# EAGLE library part STM32F038E6Y7 (library circuit_tree)
IC
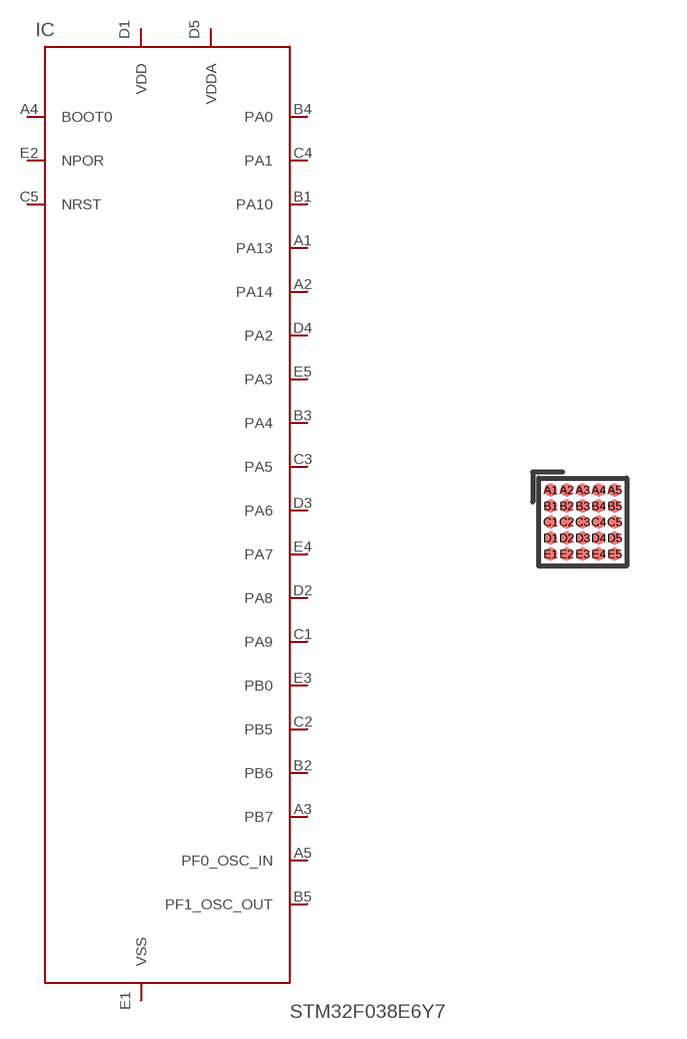
[diagram p5: symbol with the pads of WLCSP25; footprint WLCSP25]

Designator prefix IC

## STM32F038E6Y7  [WLCSP25]
A1  PA13  pas
A2  PA14  pas
A3  PB7  pas
A4  BOOT0  pas
A5  PF0_OSC_IN  pas
B1  PA10  pas
B2  PB6  pas
B3  PA4  pas
B4  PA0  pas
B5  PF1_OSC_OUT  pas
C1  PA9  pas
C2  PB5  pas
C3  PA5  pas
C4  PA1  pas
C5  NRST  pas
D1  VDD  pas
D2  PA8  pas
D3  PA6  pas
D4  PA2  pas
D5  VDDA  pas
E1  VSS  pas
E2  NPOR  pas
E3  PB0  pas
E4  PA7  pas
E5  PA3  pas

## Footprint WLCSP25 (pad centres in mm)
WLCSP25 Wafer level chip-size package; 25 bumps (5 x 5) JEDEC: -- IEC: -- JEITA: -- from nxp_packages.lbr
smd 0.32 x 0.32: A1 -0.8,0.8; A2 -0.4,0.8; A3 0,0.8; A4 0.4,0.8; A5 0.8,0.8; B1 -0.8,0.4; B2 -0.4,0.4; B3 0,0.4; B4 0.4,0.4; B5 0.8,0.4; C1 -0.8,0; C2 -0.4,0; C3 0,0; C4 0.4,0; C5 0.8,0; D1 -0.8,-0.4; D2 -0.4,-0.4; D3 0,-0.4; D4 0.4,-0.4; D5 0.8,-0.4; E1 -0.8,-0.8; E2 -0.4,-0.8; E3 0,-0.8; E4 0.4,-0.8; E5 0.8,-0.8